# Altium schematic symbol library loom-charging-cart.SchLib: 15 symbols
Pins are listed as number, name and electrical type; pins without a type are passive.

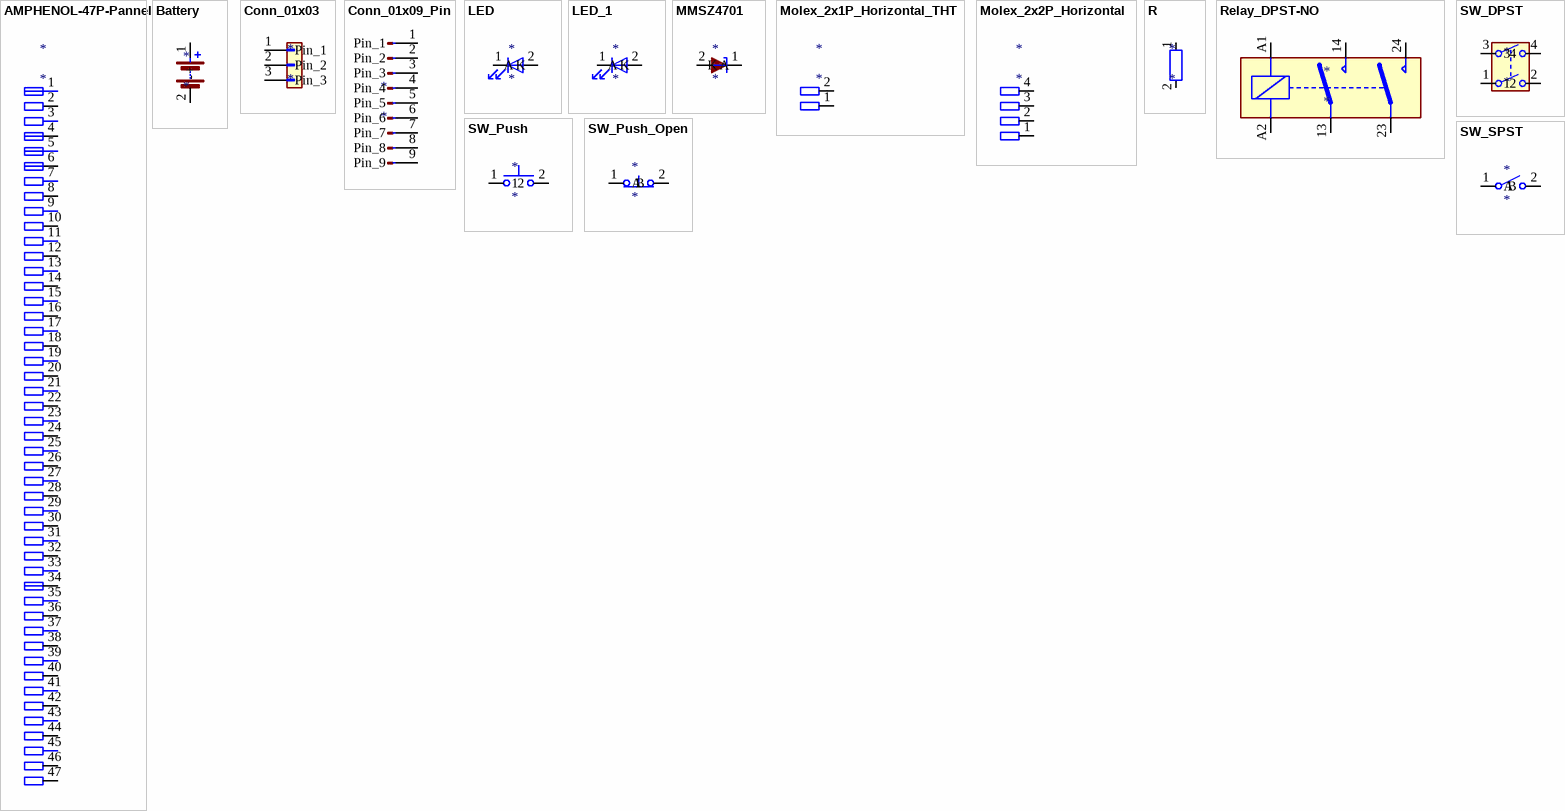
[diagram p0: symbols AMPHENOL-47P-Pannel to SW_SPST]

## AMPHENOL-47P-Pannel
designator *
pins: 1, 2, 3, 4, 5, 6, 7, 8, 9, 10, 11, 12, 13, 14, 15, 16, 17, 18, 19, 20, 21, 22, 23, 24, 25, 26, 27, 28, 29, 30, 31, 32, 33, 34, 35, 36, 37, 38, 39, 40, 41, 42, 43, 44, 45, 46, 47

## Battery
designator *
pins: 1 +, 2 -

## Conn_01x03
designator *
pins: 1 Pin_1, 2 Pin_2, 3 Pin_3

## Conn_01x09_Pin
designator *
pins: 1 Pin_1, 2 Pin_2, 3 Pin_3, 4 Pin_4, 5 Pin_5, 6 Pin_6, 7 Pin_7, 8 Pin_8, 9 Pin_9

## LED
designator *
pins: 1 K, 2 A

## LED_1
designator *
pins: 1 K, 2 A

## MMSZ4701
designator *
pins: 1 K, 2 A
1 alternate drawing of the same symbol

## Molex_2x1P_Horizontal_THT
designator *
pins: 1, 2

## Molex_2x2P_Horizontal
designator *
pins: 1, 2, 3, 4

## R
designator *
pins: 1, 2

## Relay_DPST-NO
designator *
pins: 13, 14, 23, 24, A1, A2

## SW_DPST
designator *
pins: 1, 2, 3, 4

## SW_Push
designator *
pins: 1, 2

## SW_Push_Open
designator *
pins: 1 A, 2 B

## SW_SPST
designator *
pins: 1 A, 2 B